# Altium schematic symbol library jlcpcb_FET_basic.schlib: 2 symbols
Pins are listed as number, name and electrical type; pins without a type are passive.

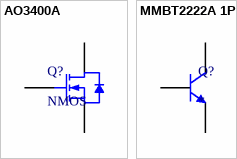
[diagram p0: symbols AO3400A to MMBT2222A 1P]

## AO3400A
designator Q?, comment NMOS
30V 5.7A 26.5mΩ@10V,5.7A 1.4W N Channel SOT-23-3L MOSFETs ROHS; Manufacturer Part Number: AO3400A; JLCPCB Part Number: C20917
footprint SOT23-3
pins: 1 G, 2 S, 3 D

## MMBT2222A 1P
designator Q?
40V 300mW 600mA NPN SOT-23 Bipolar Transistors - BJT ROHS; Manufacturer Part Number: MMBT2222A 1P; JLCPCB Part Number: C8512
footprint SOT23-3
pins: 1 B, 2 E, 3 C